# EAGLE library part MAX-M8* (library bschulz)
MAX-M8* GPS Unit - GNSS Module Characteristics: VCC: 2.7~3.6V Operating Temperature: -40°C to 85°C Digikey: 672-MAX-M8W-0CT-ND (MAX-M8W) <https://www.digikey.com/en/products/detail/MAX-M8W-0/672-MAX-M8W-0CT-ND/6150667?itemSeq=371005764>
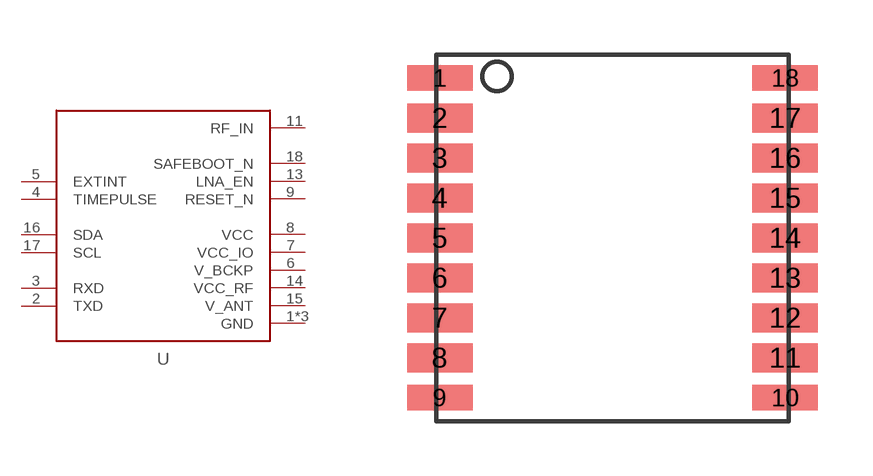
[diagram p146: symbol with the pads of MAX-M8; footprint MAX-M8]

Designator prefix U

## MAX-M8, MAX-M8W (DIGIKEY: 672-MAX-M8W-0CT-ND; DISP: MAX-M8W; MF: U-Blox; MPN: MAX-M8W-0)  [MAX-M8]
1  GND  pwr
2  TXD
3  RXD  in
4  TIMEPULSE  out
5  EXTINT
6  V_BCKP  pwr
7  VCC_IO  pwr
8  VCC  pwr
9  RESET_N  in
10  GND  pwr
11  RF_IN  in
12  GND  pwr
13  LNA_EN
14  VCC_RF  pwr
15  V_ANT  pwr
16  SDA
17  SCL  in
18  SAFEBOOT_N  in

## Footprint MAX-M8 (pad centres in mm)
MAX-M8* GPS Module Footprint Datasheet <https://www.u-blox.com/en/docs/UBX-13004876>
smd 1.8 x 0.7: 1 -4.75,4.4; 9 -4.75,-4.4; 10 4.75,-4.4; 18 4.75,4.4
smd 1.8 x 0.8: 2 -4.75,3.3; 3 -4.75,2.2; 4 -4.75,1.1; 5 -4.75,0; 6 -4.75,-1.1; 7 -4.75,-2.2; 8 -4.75,-3.3; 11 4.75,-3.3; 12 4.75,-2.2; 13 4.75,-1.1; 14 4.75,0; 15 4.75,1.1; 16 4.75,2.2; 17 4.75,3.3